# Altium footprint library SparkFun-Aesthetics.PCBLIB: 85 footprints (part 1 of 6)
Each footprint in its own frame and in the unit in brackets; x right, y up, seen from the top. Pads: shape width x height; smd on the part's side, far side on the other; paste and mask are expansions set on the pad; w line width, h text height; cw(c..) or ccw(c..) is an arc to the next point about the centre after c.
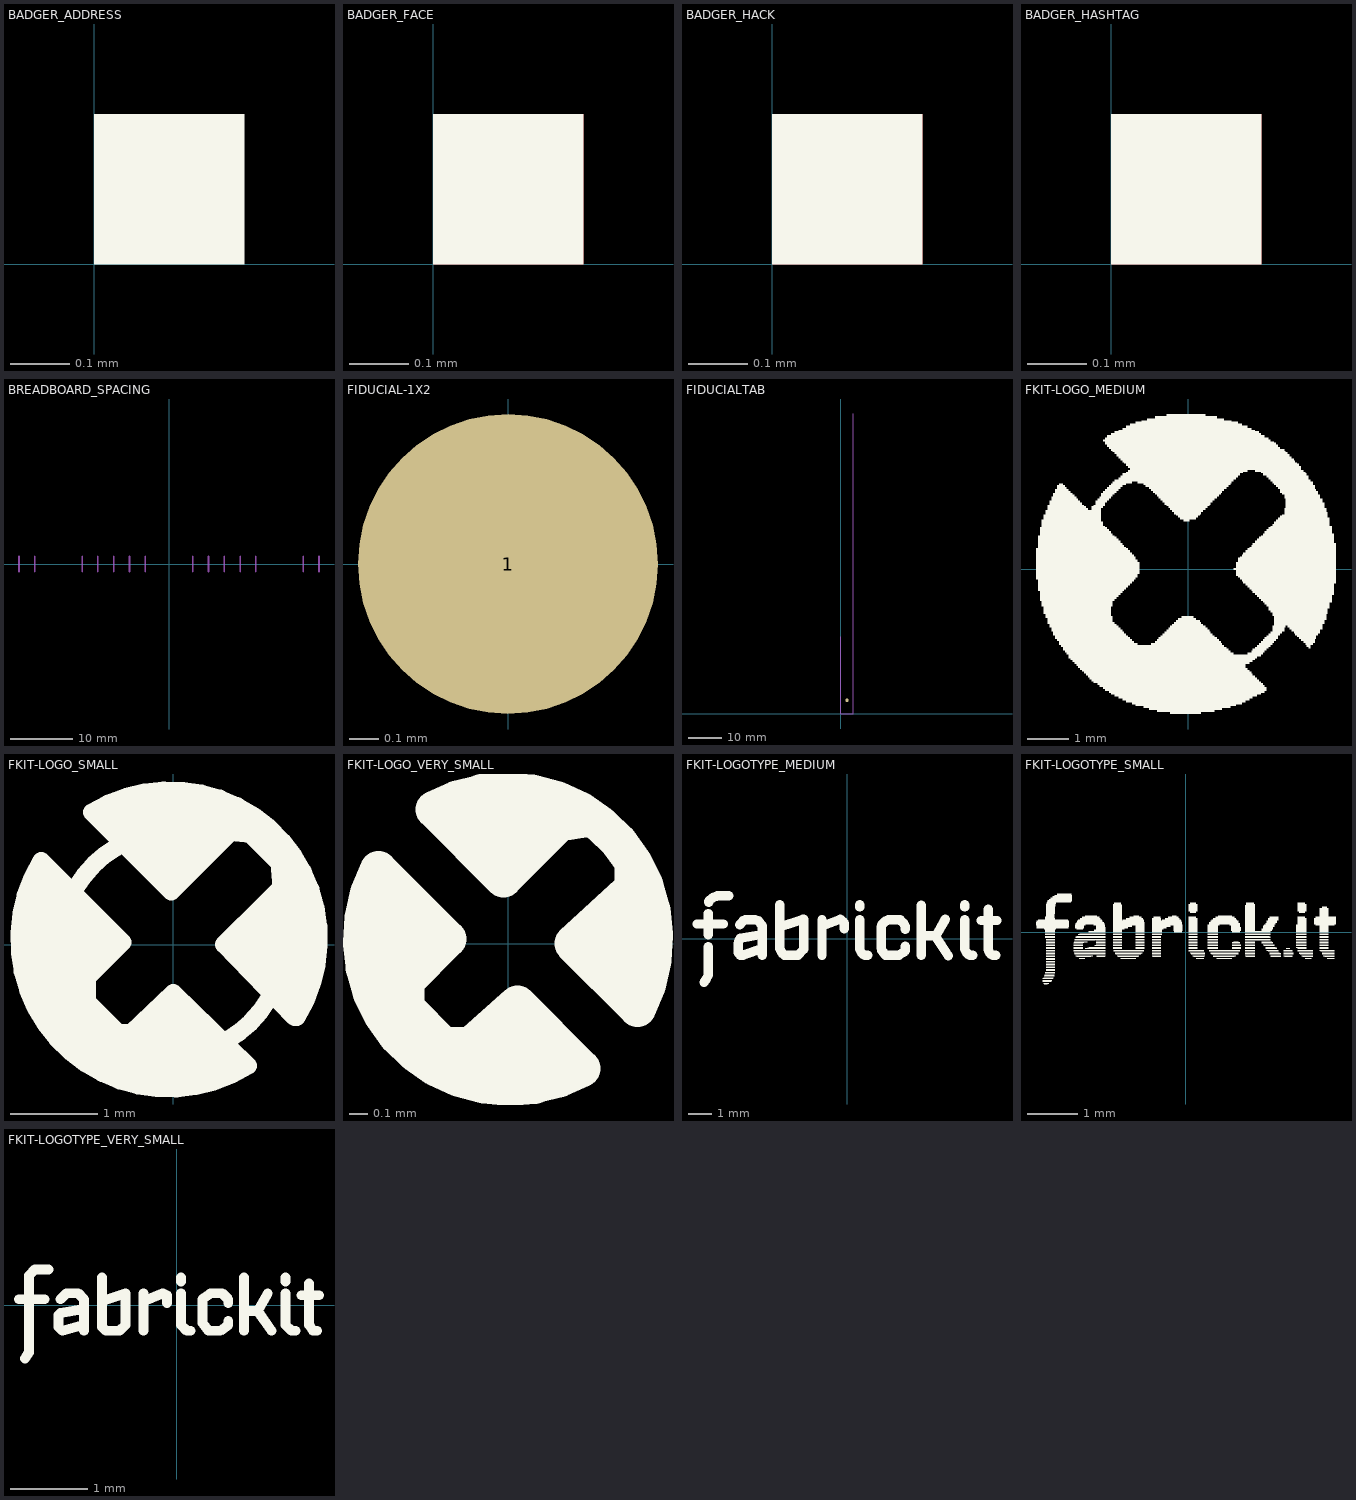
[diagram p0: the footprints below, top view; thin cyan lines are the x and y axes]

## BADGER_ADDRESS [mil]
Top Overlay:
  region: 0,0 10,0 10,10 0,10
  region: 0,0 10,0 10,10 0,10
  region: 0,0 10,0 10,10 0,10
  region: 0,0 10,0 10,10 0,10
  region: 0,0 10,0 10,10 0,10
  region: 0,0 10,0 10,10 0,10
  region: 0,0 10,0 10,10 0,10
  region: 0,0 10,0 10,10 0,10
  region: 0,0 10,0 10,10 0,10
  region: 0,0 10,0 10,10 0,10
  region: 0,0 10,0 10,10 0,10
  region: 0,0 10,0 10,10 0,10
  region: 0,0 10,0 10,10 0,10
  region: 0,0 10,0 10,10 0,10
  region: 0,0 10,0 10,10 0,10
  region: 0,0 10,0 10,10 0,10
  region: 0,0 10,0 10,10 0,10
  region: 0,0 10,0 10,10 0,10
  region: 0,0 10,0 10,10 0,10
  region: 0,0 10,0 10,10 0,10
  region: 0,0 10,0 10,10 0,10
  region: 0,0 10,0 10,10 0,10
  region: 0,0 10,0 10,10 0,10
  region: 0,0 10,0 10,10 0,10
  region: 0,0 10,0 10,10 0,10
  region: 0,0 10,0 10,10 0,10
  region: 0,0 10,0 10,10 0,10
  region: 0,0 10,0 10,10 0,10
  region: 0,0 10,0 10,10 0,10
  region: 0,0 10,0 10,10 0,10
  region: 0,0 10,0 10,10 0,10
  region: 0,0 10,0 10,10 0,10

## BADGER_FACE [mil]
Top Layer:
  region: 0,0 10,0 10,10 0,10
  region: 0,0 10,0 10,10 0,10
Top Overlay:
  region: 0,0 10,0 10,10 0,10
  region: 0,0 10,0 10,10 0,10
  region: 0,0 10,0 10,10 0,10
  region: 0,0 10,0 10,10 0,10
  region: 0,0 10,0 10,10 0,10
  region: 0,0 10,0 10,10 0,10
Top Solder:
  region: 0,0 10,0 10,10 0,10
  region: 0,0 10,0 10,10 0,10

## BADGER_HACK [mil]
Top Layer:
  region: 0,0 10,0 10,10 0,10
  region: 0,0 10,0 10,10 0,10
  region: 0,0 10,0 10,10 0,10
  region: 0,0 10,0 10,10 0,10
  region: 0,0 10,0 10,10 0,10
  region: 0,0 10,0 10,10 0,10
  region: 0,0 10,0 10,10 0,10
Top Overlay:
  drawing of 50 lines, arcs and shapes, not listed
Top Solder:
  region: 0,0 10,0 10,10 0,10
  region: 0,0 10,0 10,10 0,10
  region: 0,0 10,0 10,10 0,10
  region: 0,0 10,0 10,10 0,10
  region: 0,0 10,0 10,10 0,10
  region: 0,0 10,0 10,10 0,10
  region: 0,0 10,0 10,10 0,10

## BADGER_HASHTAG [mil]
Top Layer:
  region: 0,0 10,0 10,10 0,10
  region: 0,0 10,0 10,10 0,10
Top Overlay:
  region: 0,0 10,0 10,10 0,10
  region: 0,0 10,0 10,10 0,10
  region: 0,0 10,0 10,10 0,10
  region: 0,0 10,0 10,10 0,10
  region: 0,0 10,0 10,10 0,10
  region: 0,0 10,0 10,10 0,10
  region: 0,0 10,0 10,10 0,10
  region: 0,0 10,0 10,10 0,10
  region: 0,0 10,0 10,10 0,10
  region: 0,0 10,0 10,10 0,10
  region: 0,0 10,0 10,10 0,10
  region: 0,0 10,0 10,10 0,10
  region: 0,0 10,0 10,10 0,10
  region: 0,0 10,0 10,10 0,10
  region: 0,0 10,0 10,10 0,10
Top Solder:
  region: 0,0 10,0 10,10 0,10
  region: 0,0 10,0 10,10 0,10

## BREADBOARD_SPACING [mil]
Mechanical 16:
  lines w10: -950,-50 -950,50 ; -850,-50 -850,50 ; -550,-50 -550,50 ; -450,-50 -450,50 ; -350,-50 -350,50 ; -250,-50 -250,50 ; -150,-50 -150,50 ; 150,-50 150,50 ; 250,-50 250,50 ; 350,-50 350,50 ; 450,-50 450,50 ; 550,-50 550,50 ; 850,-50 850,50 ; 950,-50 950,50
  text "Breadboard row spacing:" at 0,75 h42.5

## CREATIVE_COMMONS [mil]
Mechanical 16:
  text "Released under the Creative Commons Attribution Share-Alike 4.0 License" at -800,200 h59.5
  text "https://creativecommons.org/licenses/by-sa/4.0/" at 0,100 h59.5
  text "Designed by:" at 450,0 h59.5

## DUMMY [mil]

## FIDUCIAL-1X2 [mil]
pads (1):
  rrect100% 40x40 smd: 1(0,0)

## FIDUCIALTAB [mil]
pads (1):
  rrect100% 40x40 smd: P$2(75,160)
Mechanical 1:
  lines w8: 0,900 0,0 150,0 150,850 ; 150,100 150,850 ; 150,3500 150,850

## FKIT-LOGO_MEDIUM [mil]
Top Overlay:
  drawing of 314 lines, arcs and shapes, not listed

## FKIT-LOGO_SMALL [mil]
Top Overlay:
  lines w8: -66,17 -39,-8 -42,-13 -65,10 -65,1 -42,-21 -43,-27 -65,-7 -62,-16 -9,-62 -23,-57 -59,-24 -34,-54 ; -62,23 -33,-5 ; -61,31 -32,1 ; -44,26 cw(c-1.5,1.5) -26,44 ; -31,61 30,59 ; -29,55 37,54 ; -23,-44 -2,-61 ; -21,49 19,49 ; -20,65 20,64 ; -16,44 14,44 ; -14,-43 5,-61 ; -12,-38 13,-59 ; -12,38 6,38 ; -7,-32 21,-58 ; -4,32 2,33 ; -3,-29 25,-53 ; 25,-43 ccw(c0.5,-0.5) 43,-25 ; 27,2 62,-3 ; 31,-3 62,-9 ; 34,7 66,3 ; 37,-9 61,-15 ; 39,52 48,44 ; 41,13 63,10 ; 44,-16 56,-20 ; 51,-22 54,-27 ; 51,23 58,22 ; 51,36 57,35 ; 52,30 59,29 ; 55,-33 23,0 42,19 ; 56,-33 ccw(c-1.5,2.5) -37,60 -1,24 26,51 35,50 48,37 49,26 42,19 ; 62,16 42,19 ; -60,38 ccw(c-2.12,2.5) 34,-55 0,-22 -19,-40 -25,-40 -39,-26 -39,-15 -23,1 -60,38

## FKIT-LOGO_VERY_SMALL [mil]
Top Overlay:
  lines w8: -27,-6 -26,8 ; -22,-5 -21,4 ; -7,25 0,28 ; -6,-26 9,-26 ; -2,23 8,29 ; -1,-20 6,-21 ; 17,27 11,26 -1,14 -16,29 cw(c-0.35,1) 28,-14 14,0 27,12 27,17 ; 21,-1 27,7 ; 25,-7 27,1 ; -28,16 ccw(c0.35,1) 16,-27 2,-13 -8,-22 -14,-22 -22,-14 -22,-8 -13,1 -28,16

## FKIT-LOGOTYPE_MEDIUM [mil]
Top Overlay:
  lines w16: -256,25 -211,25 ; -244,-74 -240,-69 -237,-62 -237,-14 ; -237,7 -237,43 ; -236,62 -236,64 -234,66 -229,70 -221,73 -202,73 ; -183,24 -177,31 -174,32 -157,32 -152,31 -145,22 -145,-17 ; -146,7 -182,1 -185,-4 -186,-9 -186,-24 -182,-28 -177,-28 -145,-17 ; -145,-28 -145,-17 ; -115,58 -115,-17 -111,-25 -107,-28 -84,-28 -74,-18 -74,33 -76,33 -113,21 ; -43,-28 -43,32 ; -41,22 -12,33 -7,29 -5,26 -5,17 ; 21,32 21,-18 25,-25 28,-27 30,-28 35,-28 ; 21,54 21,58 ; 99,-13 99,-20 96,-23 88,-28 65,-28 59,-20 58,-16 58,20 59,24 65,30 70,32 90,32 96,26 99,21 99,16 ; 126,-28 126,57 ; 127,5 151,5 167,33 ; 150,4 172,-29 ; 200,32 200,-18 204,-25 207,-27 209,-28 214,-28 ; 200,54 200,58 ; 228,31 255,31 ; 240,50 240,-19 243,-25 246,-27 248,-28 253,-28

## FKIT-LOGOTYPE_SMALL [mil]
Top Overlay:
  drawing of 972 lines, arcs and shapes, not listed

## FKIT-LOGOTYPE_VERY_SMALL [mil]
Top Overlay:
  lines w5: -80,3 -67,3 ; -77,-27 -75,-24 -75,15 -72,18 -65,18 ; -59,3 -56,6 -50,6 -47,3 -47,-2 ; -47,-13 -47,-10 ; -38,14 -38,2 ; -17,-13 -17,2 ; -17,6 -17,2 ; -5,1 -5,5 -7,6 -17,2 ; 2,6 2,-10 5,-13 7,-13 ; 2,12 2,14 ; 26,-8 26,-10 22,-13 16,-13 13,-9 13,3 17,6 23,6 26,3 26,1 ; 34,-13 34,-3 ; 34,14 34,-3 ; 46,6 41,-3 ; 48,-13 41,-3 ; 55,6 55,-10 58,-13 60,-13 ; 55,12 55,14 ; 63,5 72,5 ; 67,11 67,-10 69,-13 71,-13 ; -47,-10 -47,-2 ; -47,-10 -58,-13 -60,-11 -60,-5 -59,-4 -47,-2 ; -38,2 -38,-11 -36,-13 -29,-13 -26,-10 -26,6 -38,2 ; 34,-3 41,-3

## FOUR_LAYER_WARNING [mil]
Mechanical 16:
  text "THIS IS A FOUR-LAYER BOARD!" at 0,0 h42.5